# Altium footprint library HMC1060LP3E.PcbLib: 1 footprints
Each footprint in its own frame and in the unit in brackets; x right, y up, seen from the top. Pads: shape width x height; smd on the part's side, far side on the other; paste and mask are expansions set on the pad; w line width, h text height; cw(c..) or ccw(c..) is an arc to the next point about the centre after c.
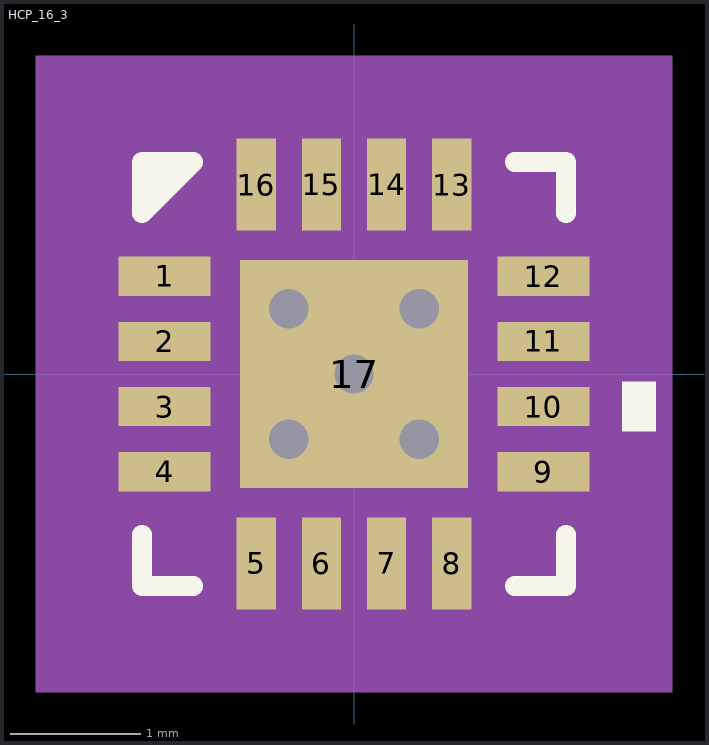
[diagram p0: the footprint, top view; thin cyan lines are the x and y axes]

## HCP_16_3 [mm]
pads (17):
  rect 0.705x0.3 smd: 1(-1.452,0.75) 2(-1.452,0.25) 3(-1.452,-0.25) 4(-1.452,-0.75) 9(1.452,-0.75) 10(1.452,-0.25) 11(1.452,0.25) 12(1.452,0.75)
  rect 0.3x0.705 smd: 5(-0.75,-1.452) 6(-0.25,-1.452) 7(0.25,-1.452) 8(0.75,-1.452) 13(0.75,1.452) 14(0.25,1.452) 15(-0.25,1.452) 16(-0.75,1.452)
  rect 1.75x1.75 smd paste-0.862: 17(0,0)
via 0.5,-0.5 diameter 0.6 hole 0.3
via -0.5,-0.5 diameter 0.6 hole 0.3
via 0.5,0.5 diameter 0.6 hole 0.3
via -0.5,0.5 diameter 0.6 hole 0.3
via 0,0 diameter 0.6 hole 0.3
Top Overlay:
  region: -1.627,1.627 -1.627,1.233 -1.233,1.627
  region: -1.627,1.43
  region: -1.43,1.627
  region: 2.059,-0.059 2.313,-0.059 2.313,-0.44 2.059,-0.44
  lines w0.152: -1.627,-1.233 -1.627,-1.627 -1.233,-1.627 ; 1.233,-1.627 1.627,-1.627 1.627,-1.233 ; 1.233,1.627 1.627,1.627 1.627,1.233 ; -1.627,1.233 -1.233,1.627 -1.627,1.627 -1.627,1.233
Top Paste:
  region: 0.875,0.875 -0.875,0.875 -0.875,-0.875 0.875,-0.875
Mechanical 5:
  region: 2.44,-2.44 -2.44,-2.44 -2.44,2.44 2.44,2.44
Mechanical 13:
  lines w0.025: -1.5,0.23 -0.23,1.5 ; -1.5,-1.5 -1.5,1.5 1.5,1.5 1.5,-1.5 -1.5,-1.5 ; -1.5,-0.9 -1.5,-0.6 -1.5,-0.9 ; -1.5,-0.4 -1.5,-0.1 -1.5,-0.4 ; -1.5,0.1 -1.5,0.4 -1.5,0.1 ; -1.5,0.6 -1.5,0.9 -1.5,0.6 ; -0.9,-1.5 -0.6,-1.5 -0.9,-1.5 ; -0.9,1.5 -0.6,1.5 -0.9,1.5 ; -0.4,-1.5 -0.1,-1.5 -0.4,-1.5 ; -0.4,1.5 -0.1,1.5 -0.4,1.5 ; 0.1,-1.5 0.4,-1.5 0.1,-1.5 ; 0.1,1.5 0.4,1.5 0.1,1.5 ; 0.6,-1.5 0.9,-1.5 0.6,-1.5 ; 0.6,1.5 0.9,1.5 0.6,1.5 ; 1.5,-0.9 1.5,-0.6 1.5,-0.9 ; 1.5,-0.4 1.5,-0.1 1.5,-0.4 ; 1.5,0.1 1.5,0.4 1.5,0.1 ; 1.5,0.6 1.5,0.9 1.5,0.6
  text "*" at -1.418,0.365 h1.27
Mechanical 15:
  region: -1,-1.754 -1.754,-1.754 -1.754,-1 -1.954,-1 -1.954,1 -1.754,1 -1.754,1.754 -1,1.754 -1,1.954 1,1.954 1,1.754 1.754,1.754 1.754,1 1.954,1 1.954,-1 1.754,-1 1.754,-1.754 1,-1.754 1,-1.954 -1,-1.954
  lines w0.152: -1.954,-1 -1.954,1 -1.754,1 -1.754,1.754 -1,1.754 -1,1.954 1,1.954 1,1.754 1.754,1.754 1.754,1 1.954,1 1.954,-1 1.754,-1 1.754,-1.754 1,-1.754 1,-1.954 -1,-1.954 -1,-1.754 -1.754,-1.754 -1.754,-1 -1.954,-1
3D body "HCP_16_3.step": height 0.97, standoff 0, extent -1.5,-1.5 1.5,1.5